# EAGLE library part MB90* (library micro-fujitsu)
F2MC-16LX MB90385 Series; 16-bit Proprietary Microcontroller CMOS MB90387/387S/F387/F387S/MB90V495G www.fma.fujitsu.com/pdf/e713717.pdf
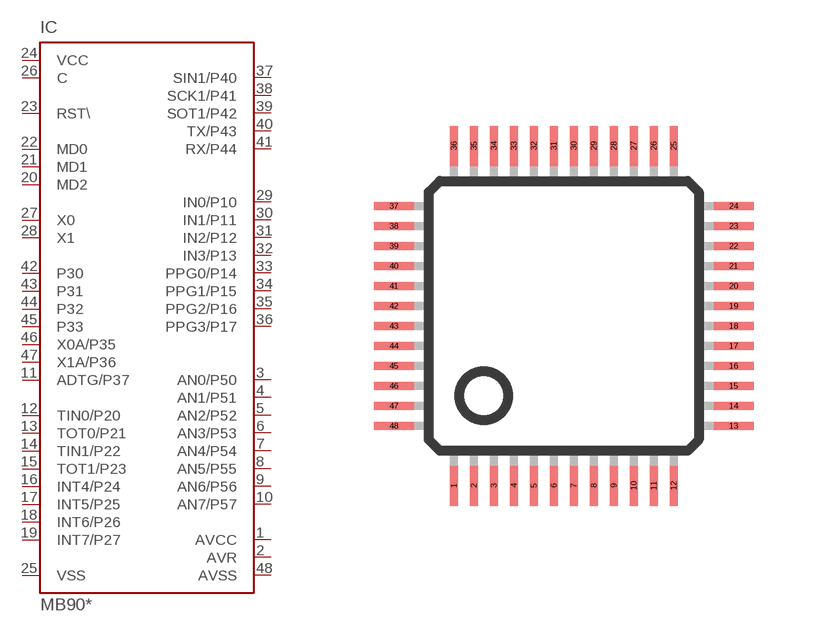
[diagram p72: symbol with the pads of LQFP48; footprint LQFP48]

Designator prefix IC

## MB90387PMT, MB90387SPMT, MB90F387PMT, MB90F387SPMT  [LQFP48]
1  AVCC  pwr
2  AVR  in
3  AN0/P50  in
4  AN1/P51  in
5  AN2/P52  in
6  AN3/P53  in
7  AN4/P54  in
8  AN5/P55  in
9  AN6/P56  in
10  AN7/P57  in
11  ADTG/P37
12  TIN0/P20
13  TOT0/P21
14  TIN1/P22
15  TOT1/P23
16  INT4/P24
17  INT5/P25
18  INT6/P26
19  INT7/P27
20  MD2  in
21  MD1  in
22  MD0  in
23  RST\  in
24  VCC  pwr
25  VSS  pwr
26  C  in
27  X0
28  X1
29  IN0/P10
30  IN1/P11
31  IN2/P12
32  IN3/P13
33  PPG0/P14
34  PPG1/P15
35  PPG2/P16
36  PPG3/P17
37  SIN1/P40
38  SCK1/P41
39  SOT1/P42
40  TX/P43
41  RX/P44
42  P30
43  P31
44  P32
45  P33
46  X0A/P35
47  X1A/P36
48  AVSS  pwr

## Footprint LQFP48 (pad centres in mm)
48-pin plastic LQFP (FPT-48P-M26) www.fma.fujitsu.com/pdf/e713717.pdf
smd 0.2 x 1: 1 -2.75,-4.25; 2 -2.25,-4.25; 3 -1.75,-4.25; 4 -1.25,-4.25; 5 -0.75,-4.25; 6 -0.25,-4.25; 7 0.25,-4.25; 8 0.75,-4.25; 9 1.25,-4.25; 10 1.75,-4.25; 11 2.25,-4.25; 12 2.75,-4.25; 25 2.75,4.25; 26 2.25,4.25; 27 1.75,4.25; 28 1.25,4.25; 29 0.75,4.25; 30 0.25,4.25; 31 -0.25,4.25; 32 -0.75,4.25; 33 -1.25,4.25; 34 -1.75,4.25; 35 -2.25,4.25; 36 -2.75,4.25
smd 1 x 0.2: 13 4.25,-2.75; 14 4.25,-2.25; 15 4.25,-1.75; 16 4.25,-1.25; 17 4.25,-0.75; 18 4.25,-0.25; 19 4.25,0.25; 20 4.25,0.75; 21 4.25,1.25; 22 4.25,1.75; 23 4.25,2.25; 24 4.25,2.75; 37 -4.25,2.75; 38 -4.25,2.25; 39 -4.25,1.75; 40 -4.25,1.25; 41 -4.25,0.75; 42 -4.25,0.25; 43 -4.25,-0.25; 44 -4.25,-0.75; 45 -4.25,-1.25; 46 -4.25,-1.75; 47 -4.25,-2.25; 48 -4.25,-2.75